# EAGLE library part STM32L010F4P6 (library STM32)
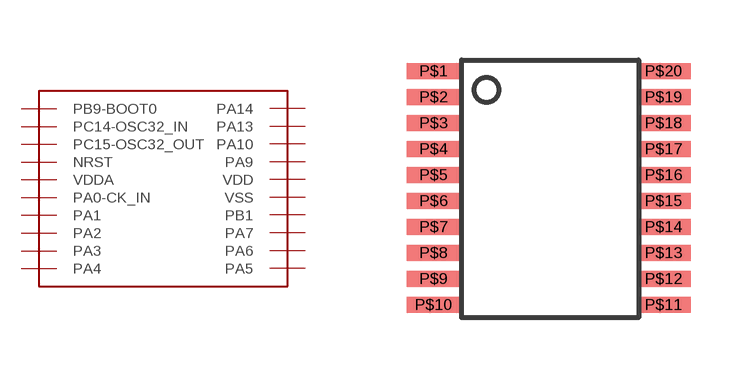
[diagram p2: symbol with the pads of TSSOP20; footprint TSSOP20]

Designator prefix MCU

## STM32L010F4P6  [TSSOP20]
P$1  PB9-BOOT0
P$2  PC14-OSC32_IN
P$3  PC15-OSC32_OUT
P$4  NRST
P$5  VDDA
P$6  PA0-CK_IN
P$7  PA1
P$8  PA2
P$9  PA3
P$10  PA4
P$11  PA5
P$12  PA6
P$13  PA7
P$14  PB1
P$15  VSS
P$16  VDD
P$17  PA9
P$18  PA10
P$19  PA13
P$20  PA14

## Footprint TSSOP20 (pad centres in mm)
smd 1.35 x 0.4: P$1 -2.875,2.925; P$2 -2.875,2.275; P$3 -2.875,1.625; P$4 -2.875,0.975; P$5 -2.875,0.325; P$6 -2.875,-0.325; P$7 -2.875,-0.975; P$8 -2.875,-1.625; P$9 -2.875,-2.275; P$10 -2.875,-2.925; P$11 2.875,-2.925; P$12 2.875,-2.275; P$13 2.875,-1.625; P$14 2.875,-0.975; P$15 2.875,-0.325; P$16 2.875,0.325; P$17 2.875,0.975; P$18 2.875,1.625; P$19 2.875,2.275; P$20 2.875,2.925